# Altium footprint library FootPrintLib_4.PcbLib: 700 footprints (part 1 of 44)
Each footprint in its own frame and in the unit in brackets; x right, y up, seen from the top. Pads: shape width x height; smd on the part's side, far side on the other; paste and mask are expansions set on the pad; w line width, h text height; cw(c..) or ccw(c..) is an arc to the next point about the centre after c.
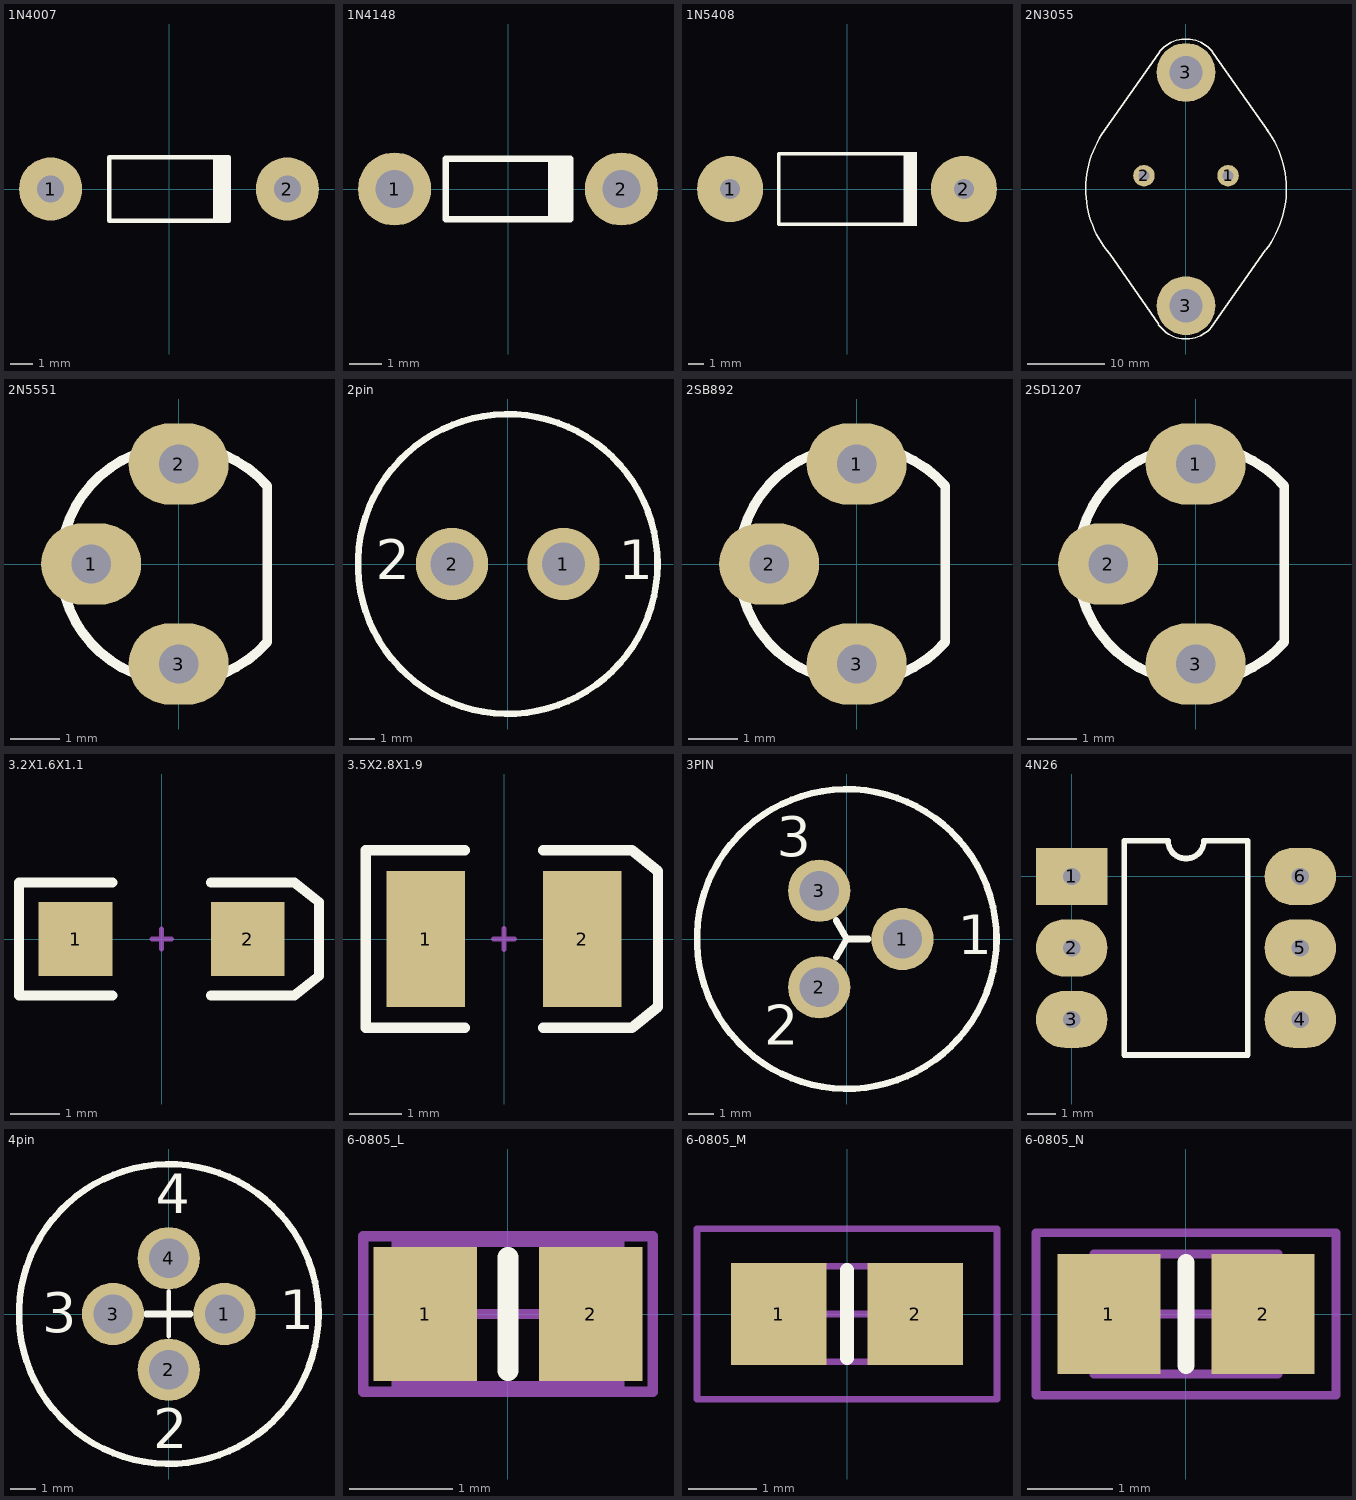
[diagram p0: the footprints below, top view; thin cyan lines are the x and y axes]

## 1N4007 [mm]
pads (2):
  round 2.794 hole 1.2: 1(-5.23,0) 2(5.23,0)
Top Overlay:
  rectangle: 1.95,-1.4 2.75,1.4
  lines w0.2: 2.65,-1.4 -2.65,-1.4 -2.65,1.4 2.65,1.4

## 1N4148 [mm]
pads (2):
  round 2.286 hole 1.2: 1(-3.55,0) 2(3.55,0)
Top Overlay:
  rectangle: 1.25,-0.95 2.05,0.95
  lines w0.2: 1.95,-0.95 -1.95,-0.95 -1.95,0.95 1.95,0.95

## 1N5408 [mil]
pads (2):
  round 170 hole 51.18: 1(-300,0) 2(300,0)
Top Overlay:
  rectangle: 145,-95 180,95
  lines w9: 155,-90 -175,-90 -175,90 155,90

## 2N3055 [mil]
pads (4):
  round 110 hole 55: 1(214.5,68) 2(-214.5,68)
  round 300 hole 170: 3(0,-595) 3(0,595)
Top Overlay:
  lines w7: -429.13,279.53 -137.8,692.91 ; -428.85,279.35 ccw(c0,0) -390.26,-331.13 ; -389.76,-330.71 -139.49,-690.96 ; -140.47,-691.64 ccw(c-0.24,-594.22) 129.92,-704.72 404.94,-312.36 ; -138.99,693.76 cw(c0,595) 138.99,693.76 ; 137.8,692.91 418.5,295.91 ; 406.93,-310.52 ccw(c0,0) 412.78,302.7
3D body "2N3055.STEP": height 410.39, standoff -58.11, extent -515.75,-788.51 507.87,757.02
3D body "Heat Sink.STEP": height 1236.69, standoff 30, extent -1126.25,-1122.04 1087.66,1107.41

## 2N5551 [mil]
pads (3):
  oval 80x65 hole 31.5: 1(-70,0) 2(0,80) 3(0,-80)
Top Overlay:
  lines w7.87: 70.87,-62.48 70.87,62.48 ; 70.88,-62.49 cw(c0,0) 70.88,62.49

## 2pin [mil]
pads (2):
  round 110 hole 65: 1(85,0) 2(-85,0)
Top Overlay:
  circle w10: c0,0 r228.35
  text "2" at -200.97,-23.62 h60
  text "1" at 169.11,-23.62 h60
3D body "2PIN1.STEP": height 1185.04, standoff 444.88, extent -297.24,-297.24 297.25,297.25

## 2SB892 [mil]
pads (3):
  oval 80x65 hole 31.5: 1(0,80) 2(-70,0) 3(0,-80)
Top Overlay:
  lines w7.87: 70.87,-62.48 70.87,62.48 ; 70.88,-62.49 cw(c0,0) 70.88,62.49

## 2SD1207 [mil]
pads (3):
  oval 80x65 hole 31.5: 1(0,80) 2(-70,0) 3(0,-80)
Top Overlay:
  lines w7.87: 70.87,-62.48 70.87,62.48 ; 70.88,-62.49 cw(c0,0) 70.88,62.49

## 3.2X1.6X1.1 [mm] "SMT LED; 2 Flat Leads"
height 1.2
pads (2):
  rect 1.5x1.5 smd: 1(-1.75,0) 2(1.75,0)
Top Overlay:
  lines w0.2: -1,-1.15 -2.9,-1.15 -2.9,1.15 -1,1.15 ; 1,-1.15 2.7,-1.15 3.2,-0.75 3.2,0.75 2.7,1.15 1,1.15
Mechanical 1:
  lines w0.1: -0.2,0 0.2,0 ; 0,-0.2 0,0.2

## 3.5X2.8X1.9 [mm] "SM LED; 2 C-Bend Leads; Body 3.5 x 2.8 x 1.9 mm, inc leads (LxWxH typ)"
height 1.9
pads (2):
  rect 1.5x2.6 smd: 1(-1.5,0) 2(1.5,0)
Top Overlay:
  lines w0.2: -0.75,-1.7 -2.65,-1.7 -2.65,1.7 -0.75,1.7 ; 0.75,-1.7 2.45,-1.7 2.95,-1.3 2.95,1.3 2.45,1.7 0.75,1.7
Mechanical 1:
  lines w0.1: -0.2,0 0.2,0 ; 0,-0.2 0,0.2

## 3PIN [mil]
pads (3):
  round 95 hole 60: 1(85,0) 2(-42,-73.49) 3(-42,73.49)
Top Overlay:
  circle w10: c0,0 r228.35
  lines w10: -16.25,28.43 0,0 ; -16,-28 0,0 ; 33,0 0,0
  text "3" at -106.48,125.98 h60
  text "2" at -126.17,-161.42 h60
  text "1" at 169.11,-23.62 h60
3D body "3pin1.STEP": height 653.54, standoff -86.61, extent -299.21,-299.21 295.28,295.28

## 4N26 [mm]
pads (6):
  rect 2.5x2 hole 0.6: 1(0,0)
  oval 2.5x2 hole 0.6: 2(0,-2.5) 3(0,-5) 4(8,-5) 5(8,-2.5) 6(8,0)
Top Overlay:
  lines w0.2: 1.835,-6.25 6.165,-6.25 6.165,1.25 4.625,1.25 cw(c4,1.25) 3.375,1.25 1.835,1.25 1.835,-6.25

## 4pin [mil]
pads (4):
  round 95 hole 60: 1(85,0) 2(0,-85) 3(-85,0) 4(0,85)
Top Overlay:
  circle w10: c0,0 r228.35
  lines w7: 0,-34 0,35
  lines w10: -34,0 33,0
  text "2" at -23.8,-204.72 h60
  text "3" at -193.09,-27.56 h60
  text "4" at -19.87,153.54 h60
  text "1" at 169.11,-23.62 h60
3D body "4PIN1.STEP": height 1185.04, standoff 444.88, extent -297.24,-297.24 297.25,297.25

## 6-0805_L [mm] "Chip Resistor, Body 2.0x1.2mm, IPC High Density"
height 0.7
pads (2):
  rect 1x1.3 smd: 1(-0.8,0) 2(0.8,0)
Top Overlay:
  lines w0.2: 0,-0.55 0,0.55
Mechanical 13:
  lines w0.1: -1.075,-0.7 -1.075,0.7 1.075,0.7 1.075,-0.7 -1.075,-0.7
Mechanical 15:
  lines w0.1: -0.5,0 0.5,0 ; 0,-0.5 0,0.5 ; -1.4,-0.75 -1.4,0.75 1.4,0.75 1.4,-0.75 -1.4,-0.75
3D body: height 0.7, standoff 0, extent -1.075,-0.7 1.075,0.7

## 6-0805_M [mm] "Chip Resistor, Body 2.0x1.2mm, IPC Low Density"
height 0.7
pads (2):
  rect 1.4x1.5 smd: 1(-1,0) 2(1,0)
Top Overlay:
  lines w0.2: 0,-0.65 0,0.65
Mechanical 13:
  lines w0.1: -1.075,-0.7 1.075,-0.7 1.075,0.7 -1.075,0.7 -1.075,-0.7
Mechanical 15:
  lines w0.1: -0.5,0 0.5,0 ; 0,-0.5 0,0.5 ; -2.2,-1.25 2.2,-1.25 2.2,1.25 -2.2,1.25 -2.2,-1.25
3D body: height 0.7, standoff 0, extent -1.075,-0.7 1.075,0.7

## 6-0805_N [mm] "Chip Resistor, Body 2.0x1.2mm, IPC Medium Density"
height 0.7
pads (2):
  rect 1.2x1.4 smd: 1(-0.9,0) 2(0.9,0)
Top Overlay:
  lines w0.2: 0,-0.6 0,0.6
Mechanical 13:
  lines w0.1: -1.075,-0.7 1.075,-0.7 1.075,0.7 -1.075,0.7 -1.075,-0.7
Mechanical 15:
  lines w0.1: -0.5,0 0.5,0 ; 0,-0.5 0,0.5 ; -1.75,-0.95 1.75,-0.95 1.75,0.95 -1.75,0.95 -1.75,-0.95
3D body: height 0.7, standoff 0, extent -1.075,-0.7 1.075,0.7